# EAGLE library part USBLC6-2 (library BreakoutBoard)
USBLC6-2 Very low capacitance ESD protection Source: http://www.st.com/internet/com/TECHNICAL_RESOURCES/TECHNICAL_LITERATURE/DATASHEET/CD00050750.pdf
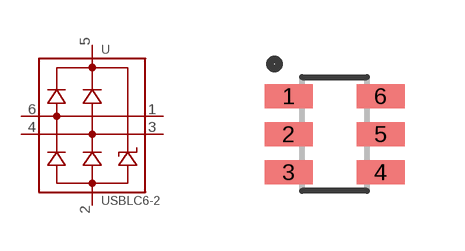
[diagram p8: symbol with the pads of SOT23-6L; footprint SOT23-6L]

Designator prefix U

## USBLC6-2 (DIGI-KEY#: 497-5026-1-ND; MF: STMicroelectronics; MPN: USBLC6-2P6)  [SOT23-6L]
1  IO1
2  GND  pwr
3  IO2
4  IO2
5  VBUS  pwr
6  IO1

## Footprint SOT23-6L (pad centres in mm)
SOT23-6L Source: http://www.st.com/internet/com/TECHNICAL_RESOURCES/TECHNICAL_LITERATURE/DATASHEET/CD00050750.pdf
smd 1.2 x 0.6: 1 -1.15,0.95; 2 -1.15,0; 3 -1.15,-0.95; 4 1.15,-0.95; 5 1.15,0; 6 1.15,0.95